# EAGLE library part AI-THINKER_RA-01 (library LoRa_modules)
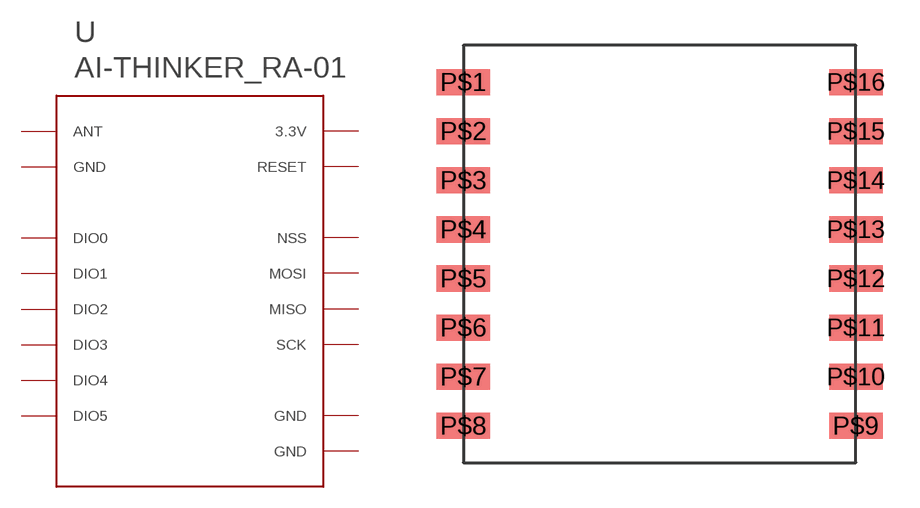
[diagram p0: symbol with the pads of AI-THINKER_RA-01; footprint AI-THINKER_RA-01]

Designator prefix -

## AI-THINKER_RA-01  [AI-THINKER_RA-01]
P$1  ANT
P$2  GND
P$3  3.3V
P$4  RESET
P$5  DIO0
P$6  DIO1
P$7  DIO2
P$8  DIO3
P$9  GND
P$10  DIO4
P$11  DIO5
P$12  SCK
P$13  MISO
P$14  MOSI
P$15  NSS
P$16  GND

## Footprint AI-THINKER_RA-01 (pad centres in mm)
smd 2.184 x 1.067: P$1 -8,7; P$2 -8,5; P$3 -8,3; P$4 -8,1; P$5 -8,-1; P$6 -8,-3; P$7 -8,-5; P$8 -8,-7; P$9 8,-7; P$10 8,-5; P$11 8,-3; P$12 8,-1; P$13 8,1; P$14 8,3; P$15 8,5; P$16 8,7